# Altium footprint library CPDQ5V0-HF.PCBLIB: 1 footprints
Each footprint in its own frame and in the unit in brackets; x right, y up, seen from the top. Pads: shape width x height; smd on the part's side, far side on the other; paste and mask are expansions set on the pad; w line width, h text height; cw(c..) or ccw(c..) is an arc to the next point about the centre after c.
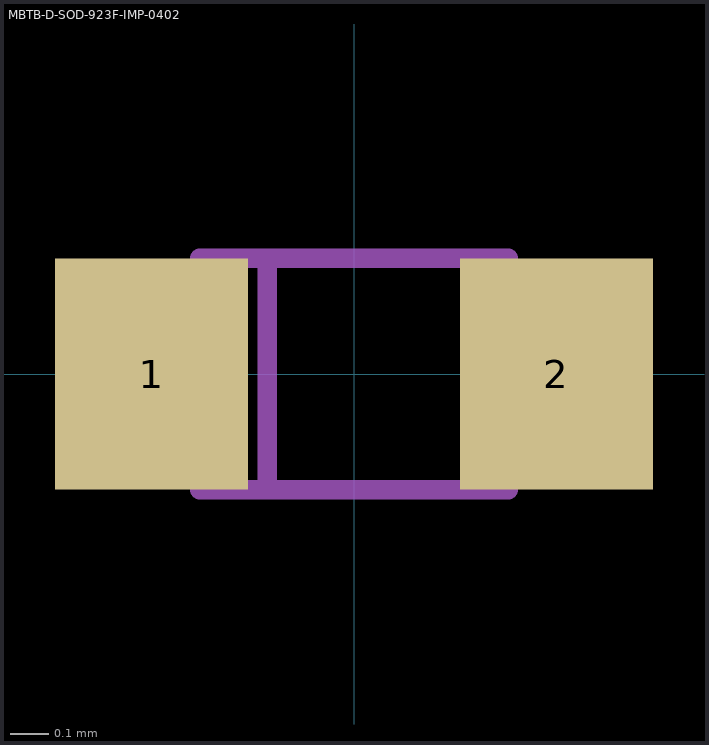
[diagram p0: the footprint, top view; thin cyan lines are the x and y axes]

## MBTB-D-SOD-923F-IMP-0402 [mm]
pads (2):
  rect 0.5x0.6 smd: 1(-0.525,0) 2(0.525,0)
tPlace:
  lines w0.05: -0.225,-0.275 -0.225,0.275 ; -0.4,-0.3 -0.4,0.3 0.4,0.3 0.4,-0.3 -0.4,-0.3
3D body "CPDQ.step": height 0.82, standoff 0, extent -0.521,-0.33 0.521,0.33